# Altium schematic symbol library Capacitor.SchLib: 3 symbols
Pins are listed as number, name and electrical type; pins without a type are passive.

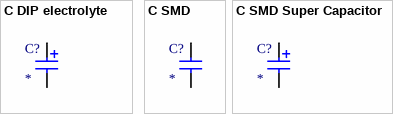
[diagram p0: symbols C DIP electrolyte to C SMD Super Capacitor]

## C DIP electrolyte
designator C?  (value not drawn)
Catalog number: *; Catalog: *; Value: *
pins: 1 +, 2 -

## C SMD
designator C?
C SMD; Catalog number: *; Catalog: *; Catalog page: *; Value: *
footprint C SMD Ceramic 0805 (Chip Capacitor, 2-Leads, Body 2,0x1,3mm)
footprint C SMD CERAMIC 1206 (Chip Capacitor, 2-Leads, Body 3,2x1,6mm)
footprint C SMD Ceramic 0603 (Chip Capacitor, 2-Leads, Body 1,6x0,8mm)
pins: 1, 2

## C SMD Super Capacitor
designator C?
C SMD; Catalog number: *; Catalog: *; Catalog page: *; Value: *
footprint C SMD ER (Super Capacitor)
footprint C SMD 311-VA6R (Super Capacitor)
pins: 1, 2